# EAGLE library part TL1290 (library E-Switch)
TL1290 illuminated right angle tactile switches google it
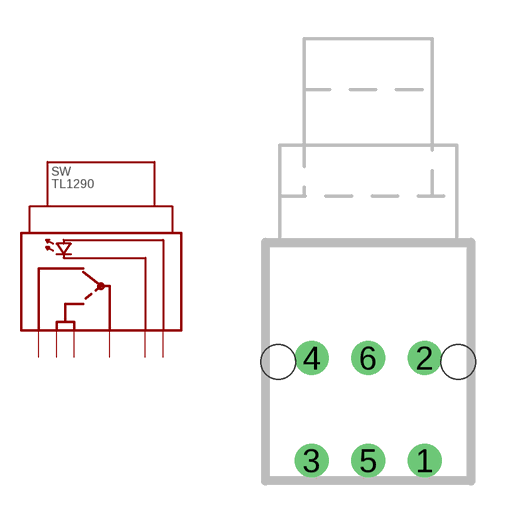
[diagram p0: symbol with the pads of TL1290; footprint TL1290]

Designator prefix SW

## TL1290AF500RR (PARTNO: TL1290AF500RR)  [TL1290]
1  NC  pas
2  COM  pas
3  NO  pas
4  NO  pas
5  ANODE  pas
6  CATHODE  pas

## TL1290AF500BR  [TL1290]
Pads as for TL1290

## Footprint TL1290 (pad centres in mm)
TL1290 illuminated tactile switches, right-angle just fucking google tl1290, i'm not dealing with their datasheet thing right now
drill 0.8 round: 1 2.2,-4; 2 2.2,0; 3 -2.2,-4; 4 -2.2,0; 5 0,-4; 6 0,0
hole 1.35 at 3.5,-0.15
hole 1.35 at -3.5,-0.15